# EAGLE library part OLIMEX_IC_H27UBG8T2A (library A10-A20-OLINUXINO-MICRO-4GB_Rev_D)
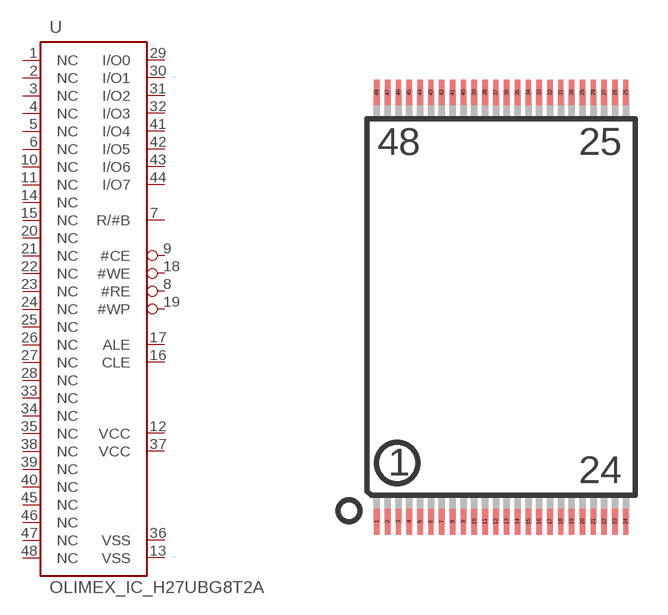
[diagram p12: symbol with the pads of OLIMEX_IC_TSOP48; footprint OLIMEX_IC_TSOP48]

Designator prefix U

## OLIMEX_IC_H27UBG8T2A  [OLIMEX_IC_TSOP48]
1  NC  nc
2  NC  nc
3  NC  nc
4  NC  nc
5  NC  nc
6  NC  nc
7  R/#B  out
8  #RE  in
9  #CE  in
10  NC  nc
11  NC  nc
12  VCC  pwr
13  VSS  pwr
14  NC  nc
15  NC  nc
16  CLE  in
17  ALE  in
18  #WE  in
19  #WP  in
20  NC  nc
21  NC  nc
22  NC  nc
23  NC  nc
24  NC  nc
25  NC  nc
26  NC  nc
27  NC  nc
28  NC  nc
29  I/O0
30  I/O1
31  I/O2
32  I/O3
33  NC  nc
34  NC  nc
35  NC  nc
36  VSS  pwr
37  VCC  pwr
38  NC  nc
39  NC  nc
40  NC  nc
41  I/O4
42  I/O5
43  I/O6
44  I/O7
45  NC  nc
46  NC  nc
47  NC  nc
48  NC  nc

## Footprint OLIMEX_IC_TSOP48 (pad centres in mm)
smd 0.25 x 1.2: 1 -5.75,-9.9; 2 -5.25,-9.9; 3 -4.75,-9.9; 4 -4.25,-9.9; 5 -3.75,-9.9; 6 -3.25,-9.9; 7 -2.75,-9.9; 8 -2.25,-9.9; 9 -1.75,-9.9; 10 -1.25,-9.9; 11 -0.75,-9.9; 12 -0.25,-9.9; 13 0.25,-9.9; 14 0.75,-9.9; 15 1.25,-9.9; 16 1.75,-9.9; 17 2.25,-9.9; 18 2.75,-9.9; 19 3.25,-9.9; 20 3.75,-9.9; 21 4.25,-9.9; 22 4.75,-9.9; 23 5.25,-9.9; 24 5.75,-9.9; 25 5.75,9.9; 26 5.25,9.9; 27 4.75,9.9; 28 4.25,9.9; 29 3.75,9.9; 30 3.25,9.9; 31 2.75,9.9; 32 2.25,9.9; 33 1.75,9.9; 34 1.25,9.9; 35 0.75,9.9; 36 0.25,9.9; 37 -0.25,9.9; 38 -0.75,9.9; 39 -1.25,9.9; 40 -1.75,9.9; 41 -2.25,9.9; 42 -2.75,9.9; 43 -3.25,9.9; 44 -3.75,9.9; 45 -4.25,9.9; 46 -4.75,9.9; 47 -5.25,9.9; 48 -5.75,9.9